# Altium footprint library Michel.PcbLib: 60 footprints (part 4 of 4)
Each footprint in its own frame and in the unit in brackets; x right, y up, seen from the top. Pads: shape width x height; smd on the part's side, far side on the other; paste and mask are expansions set on the pad; w line width, h text height; cw(c..) or ccw(c..) is an arc to the next point about the centre after c.
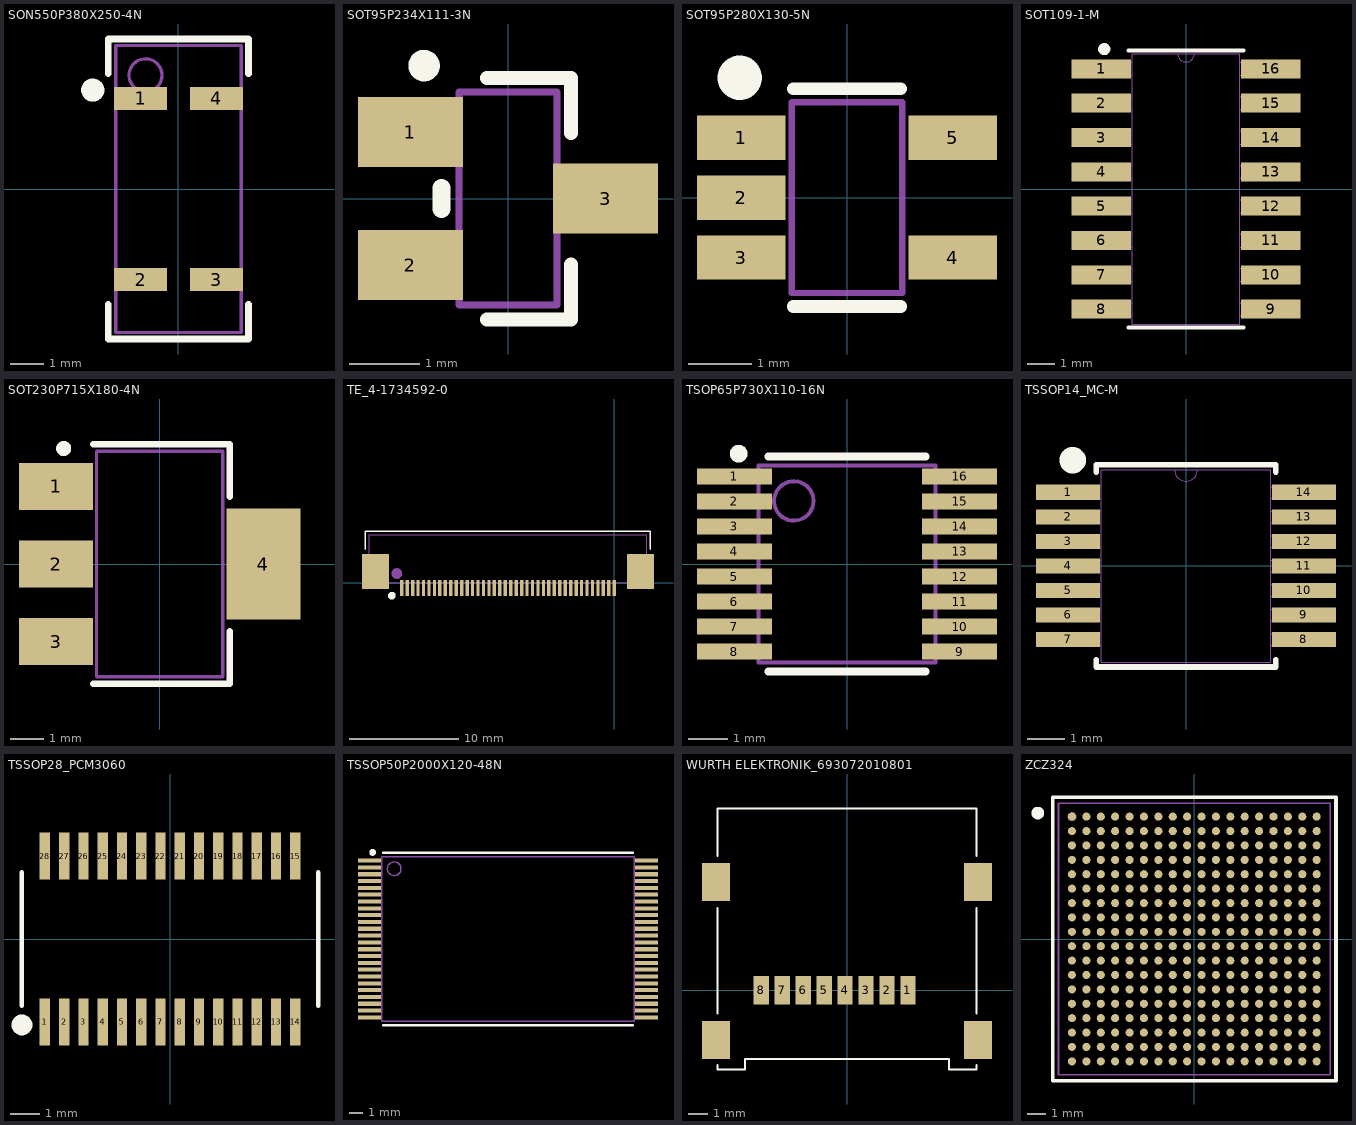
[diagram p3: the footprints below, top view; thin cyan lines are the x and y axes]

## SON550P380X250-4N [mm] "SON, 4-Leads, Body 8.70x3.80mm, Pitch 5.50mm, IPC Medium Density"
height 2.5
pads (4):
  rect 1.6x0.7 smd: 1(-1.15,2.75) 2(-1.15,-2.75) 3(1.15,-2.75) 4(1.15,2.75)
Top Overlay:
  circle w0.5: c-2.6,3 r0.1
  lines w0.2: -2.125,-3.5 -2.125,-4.55 2.125,-4.55 2.125,-3.5 ; -2.125,3.5 -2.125,4.55 2.125,4.55 2.125,3.5
Mechanical 13:
  circle w0.1: c-1,3.45 r0.5
  lines w0.1: -1.9,-4.35 1.9,-4.35 1.9,4.35 -1.9,4.35 -1.9,-4.35
3D body: height 2.5, standoff 0, extent -1.9,-4.35 1.9,4.35

## SOT95P234X111-3N [mm] "SOT23_3 ; SOT23, 3-Leads, Body 2.92x2.34mm, Pitch 0.95mm, IPC Medium Density"
height 1.11
pads (3):
  rect 1.5x1 smd: 1(-1.393,0.95) 2(-1.393,-0.95) 3(1.393,0)
Top Overlay:
  circle w0.25: c-1.2,1.9 r0.1
  lines w0.2: -0.3,-1.725 0.9,-1.725 ; -0.3,1.725 0.9,1.725 ; 0.9,-1.7 0.9,-0.938 ; 0.9,0.938 0.9,1.7
  lines w0.254: -0.95,-0.15 -0.95,0.15
Mechanical 13:
  lines w0.1: -0.7,-1.52 0.7,-1.52 0.7,1.52 -0.7,1.52 -0.7,-1.52
3D body: height 1.11, standoff 0.01, extent -0.7,-1.52 0.7,1.52

## SOT95P280X130-5N [mm] "SOT23_5 ; SOT23, 5-Leads, Body 2.91x2.80mm, Pitch 0.95mm, IPC Medium Density"
height 1.3
pads (5):
  rect 1.4x0.7 smd mask+0.07: 1(-1.677,0.95) 2(-1.677,0) 3(-1.677,-0.95) 4(1.677,-0.95) 5(1.677,0.95)
Top Overlay:
  circle w0.5: c-1.7,1.9 r0.1
  lines w0.2: -0.85,-1.725 0.85,-1.725 ; -0.85,1.725 0.85,1.725
Mechanical 13:
  lines w0.1: -0.875,-1.51 -0.875,1.51 0.875,1.51 0.875,-1.51 -0.875,-1.51
3D body: height 1.3, standoff 0.15, extent -0.875,-1.51 0.875,1.51

## SOT109-1-M [mm] "SOIC_16"
pads (16):
  rect 2.21x0.7 smd: 1(-3.134,4.445) 2(-3.134,3.175) 3(-3.134,1.905) 4(-3.134,0.635) 5(-3.134,-0.635) 6(-3.134,-1.905) 7(-3.134,-3.175) 8(-3.134,-4.445) 9(3.134,-4.445) 10(3.134,-3.175) 11(3.134,-1.905) 12(3.134,-0.635) 13(3.134,0.635) 14(3.134,1.905) 15(3.134,3.175) 16(3.134,4.445)
Top Overlay:
  circle w0.25: c-3.025,5.175 r0.1
  lines w0.152: -2.121,-5.131 2.121,-5.131 ; -2.121,5.131 2.121,5.131
Mechanical 13:
  lines w0: -0.305,5.004 ccw(c0,5.004) 0.305,5.004
  lines w0.025: -3.099,-4.686 -3.099,-4.204 -1.994,-4.204 -1.994,-4.686 -3.099,-4.686 ; -3.099,-3.416 -3.099,-2.934 -1.994,-2.934 -1.994,-3.416 -3.099,-3.416 ; -3.099,-2.146 -3.099,-1.664 -1.994,-1.664 -1.994,-2.146 -3.099,-2.146 ; -3.099,-0.876 -3.099,-0.394 -1.994,-0.394 -1.994,-0.876 -3.099,-0.876 ; -3.099,0.394 -3.099,0.876 -1.994,0.876 -1.994,0.394 -3.099,0.394 ; -3.099,1.664 -3.099,2.146 -1.994,2.146 -1.994,1.664 -3.099,1.664 ; -3.099,2.934 -3.099,3.416 -1.994,3.416 -1.994,2.934 -3.099,2.934 ; -3.099,4.204 -3.099,4.686 -1.994,4.686 -1.994,4.204 -3.099,4.204 ; -1.994,-5.004 1.994,-5.004 1.994,5.004 -1.994,5.004 -1.994,-5.004 ; 1.994,-4.686 1.994,-4.204 3.099,-4.204 3.099,-4.686 1.994,-4.686 ; 1.994,-3.416 1.994,-2.934 3.099,-2.934 3.099,-3.416 1.994,-3.416 ; 1.994,-2.146 1.994,-1.664 3.099,-1.664 3.099,-2.146 1.994,-2.146 ; 1.994,-0.876 1.994,-0.394 3.099,-0.394 3.099,-0.876 1.994,-0.876 ; 1.994,0.394 1.994,0.876 3.099,0.876 3.099,0.394 1.994,0.394 ; 1.994,1.664 1.994,2.146 3.099,2.146 3.099,1.664 1.994,1.664 ; 1.994,2.934 1.994,3.416 3.099,3.416 3.099,2.934 1.994,2.934 ; 1.994,4.204 1.994,4.686 3.099,4.686 3.099,4.204 1.994,4.204
  text "*" at -1.93,3.658 h1.27
3D body: height 0.25, standoff 0, extent 0,0 0.254,0.254
3D body "SOT109-1-M.step": height 1.76, standoff 0, extent -3.099,-5.004 3.099,5.004

## SOT230P715X180-4N [mm] "SOT223_4 ; SOT223, 4-Leads, Body 6.60x7.15mm (avg), Pitch 2.30mm, IPC Medium Density"
height 1.8
pads (4):
  rect 2.2x1.4 smd: 1(-3.075,2.3) 2(-3.075,0) 3(-3.075,-2.3)
  rect 2.2x3.3 smd: 4(3.075,0)
Top Overlay:
  circle w0.25: c-2.85,3.425 r0.1
  lines w0.2: -1.975,-3.55 2.075,-3.55 2.075,-2 ; -1.975,3.55 2.075,3.55 2.075,2
Mechanical 13:
  lines w0.1: -1.875,-3.35 -1.875,3.35 1.875,3.35 1.875,-3.35 -1.875,-3.35
3D body: height 1.8, standoff 0.02, extent -1.875,-3.35 1.875,3.35

## TE_4-1734592-0 [mm] "CMS_42"
pads (42):
  rect 0.3x1.5 smd mask+0.05: 1(-19.5,-0.508) 2(-19,-0.508) 3(-18.5,-0.508) 4(-18,-0.508) 5(-17.5,-0.508) 6(-17,-0.508) 7(-16.5,-0.508) 8(-16,-0.508) 9(-15.5,-0.508) 10(-15,-0.508) 11(-14.5,-0.508) 12(-14,-0.508) 13(-13.5,-0.508) 14(-13,-0.508) 15(-12.5,-0.508) 16(-12,-0.508) 17(-11.5,-0.508) 18(-11,-0.508) 19(-10.5,-0.508) 20(-10,-0.508) 21(-9.5,-0.508) 22(-9,-0.508) 23(-8.5,-0.508) 24(-8,-0.508) 25(-7.5,-0.508) 26(-7,-0.508) 27(-6.5,-0.508) 28(-6,-0.508) 29(-5.5,-0.508) 30(-5,-0.508) 31(-4.5,-0.508) 32(-4,-0.508) 33(-3.5,-0.508) 34(-3,-0.508) 35(-2.5,-0.508) 36(-2,-0.508) 37(-1.5,-0.508) 38(-1,-0.508) 39(-0.5,-0.508) 40(0,-0.508)
  rect 2.5x3.2 smd: ""(-21.913,1.016) ""(2.413,1.016)
Top Overlay:
  circle w0.5: c-20.4,-1.2 r0.1
  lines w0.152: -22.86,3.048 -22.86,4.699 3.302,4.699 3.302,3.048
Mechanical 13:
  circle w0.508: c-19.95,0.825 r0.232
  lines w0.025: -22.463,0 2.963,0 2.963,4.394 -22.463,4.394 -22.463,0
3D body: height 0.25, standoff 0, extent 0,0 0.254,0.254

## TSOP65P730X110-16N [mm] "QSOP_16 ; TSOP, 16-Leads, Body 5.00x4.45mm, Pitch 0.65mm, IPC Medium Density"
height 1.1
pads (16):
  rect 1.9x0.4 smd mask+0.06: 1(-2.857,2.222) 2(-2.857,1.587) 3(-2.857,0.953) 4(-2.857,0.318) 5(-2.857,-0.318) 6(-2.857,-0.953) 7(-2.857,-1.587) 8(-2.857,-2.222) 9(2.857,-2.222) 10(2.857,-1.587) 11(2.857,-0.953) 12(2.857,-0.318) 13(2.857,0.318) 14(2.857,0.953) 15(2.857,1.587) 16(2.857,2.222)
Top Overlay:
  circle w0.25: c-2.75,2.8 r0.1
  lines w0.2: -2,-2.725 2,-2.725 ; -2,2.725 2,2.725
Mechanical 13:
  circle w0.1: c-1.35,1.6 r0.5
  lines w0.1: -2.25,-2.5 -2.25,2.5 2.25,2.5 2.25,-2.5 -2.25,-2.5
3D body: height 1.1, standoff 0.1, extent -2.25,-2.5 2.25,2.5

## TSSOP14_MC-M [mm] "TSSOP_14"
pads (14):
  rect 1.7x0.4 smd mask+0.06: 1(-3.124,1.95) 2(-3.124,1.3) 3(-3.124,0.65) 4(-3.124,0) 5(-3.124,-0.65) 6(-3.124,-1.3) 7(-3.124,-1.95) 8(3.124,-1.95) 9(3.124,-1.3) 10(3.124,-0.65) 11(3.124,0) 12(3.124,0.65) 13(3.124,1.3) 14(3.124,1.95)
Top Overlay:
  circle w0.5: c-3,2.8 r0.1
  lines w0.152: -2.375,-2.486 -2.375,-2.68 2.375,-2.68 2.375,-2.486 ; -2.375,2.486 -2.375,2.68 2.375,2.68 2.375,2.486
Mechanical 13:
  lines w0: -0.305,2.553 ccw(c0,2.553) 0.305,2.553
  lines w0.025: -3.2,-2.102 -2.248,-2.102 -2.248,-1.798 -3.2,-1.798 -3.2,-2.102 ; -3.2,-1.452 -2.248,-1.452 -2.248,-1.148 -3.2,-1.148 -3.2,-1.452 ; -3.2,-0.802 -2.248,-0.802 -2.248,-0.498 -3.2,-0.498 -3.2,-0.802 ; -3.2,-0.152 -2.248,-0.152 -2.248,0.152 -3.2,0.152 -3.2,-0.152 ; -3.2,0.498 -2.248,0.498 -2.248,0.802 -3.2,0.802 -3.2,0.498 ; -3.2,1.148 -2.248,1.148 -2.248,1.452 -3.2,1.452 -3.2,1.148 ; -3.2,1.798 -2.248,1.798 -2.248,2.102 -3.2,2.102 -3.2,1.798 ; -2.248,-2.553 -2.248,2.553 2.248,2.553 2.248,-2.553 -2.248,-2.553 ; 2.248,-2.102 3.2,-2.102 3.2,-1.798 2.248,-1.798 2.248,-2.102 ; 2.248,-1.452 3.2,-1.452 3.2,-1.148 2.248,-1.148 2.248,-1.452 ; 2.248,-0.802 3.2,-0.802 3.2,-0.498 2.248,-0.498 2.248,-0.802 ; 2.248,-0.152 3.2,-0.152 3.2,0.152 2.248,0.152 2.248,-0.152 ; 2.248,0.498 3.2,0.498 3.2,0.802 2.248,0.802 2.248,0.498 ; 2.248,1.148 3.2,1.148 3.2,1.452 2.248,1.452 2.248,1.148 ; 2.248,1.798 3.2,1.798 3.2,2.102 2.248,2.102 2.248,1.798
  text "*" at -2.184,1.206 h1.27
3D body "TSSOP14_MC-M.step": height 1.2, standoff 0, extent -3.2,-2.553 3.2,2.553
3D body: height 0.25, standoff 0, extent 0,0 0.254,0.254

## TSSOP28_PCM3060 [mm] "TSSOP_28"
pads (28):
  rect 0.35x1.6 smd: 1(-4.225,-2.8) 2(-3.575,-2.8) 3(-2.925,-2.8) 4(-2.275,-2.8) 5(-1.625,-2.8) 6(-0.975,-2.8) 7(-0.325,-2.8) 8(0.325,-2.8) 9(0.975,-2.8) 10(1.625,-2.8) 11(2.275,-2.8) 12(2.925,-2.8) 13(3.575,-2.8) 14(4.225,-2.8) 15(4.225,2.8) 16(3.575,2.8) 17(2.925,2.8) 18(2.275,2.8) 19(1.625,2.8) 20(0.975,2.8) 21(0.325,2.8) 22(-0.325,2.8) 23(-0.975,2.8) 24(-1.625,2.8) 25(-2.275,2.8) 26(-2.925,2.8) 27(-3.575,2.8) 28(-4.225,2.8)
Top Overlay:
  circle w0.5: c-5,-2.9 r0.1
  lines w0.15: -5,-2.25 -5,2.25 ; 5,-2.25 5,2.25

## TSSOP50P2000X120-48N [mm] "TSSOP, 48-Leads, Body 12.01x18.40mm, Pitch 0.50mm, IPC Medium Density"
height 1.2
pads (48):
  rect 1.7x0.3 smd: 1(-49.55,28.75) 2(-49.55,28.25) 3(-49.55,27.75) 4(-49.55,27.25) 5(-49.55,26.75) 6(-49.55,26.25) 7(-49.55,25.75) 8(-49.55,25.25) 9(-49.55,24.75) 10(-49.55,24.25) 11(-49.55,23.75) 12(-49.55,23.25) 13(-49.55,22.75) 14(-49.55,22.25) 15(-49.55,21.75) 16(-49.55,21.25) 17(-49.55,20.75) 18(-49.55,20.25) 19(-49.55,19.75) 20(-49.55,19.25) 21(-49.55,18.75) 22(-49.55,18.25) 23(-49.55,17.75) 24(-49.55,17.25) 25(-29.25,17.25) 26(-29.25,17.75) 27(-29.25,18.25) 28(-29.25,18.75) 29(-29.25,19.25) 30(-29.25,19.75) 31(-29.25,20.25) 32(-29.25,20.75) 33(-29.25,21.25) 34(-29.25,21.75) 35(-29.25,22.25) 36(-29.25,22.75) 37(-29.25,23.25) 38(-29.25,23.75) 39(-29.25,24.25) 40(-29.25,24.75) 41(-29.25,25.25) 42(-29.25,25.75) 43(-29.25,26.25) 44(-29.25,26.75) 45(-29.25,27.25) 46(-29.25,27.75) 47(-29.25,28.25) 48(-29.25,28.75)
Top Overlay:
  circle w0.25: c-49.325,29.35 r0.125
  lines w0.2: -48.55,16.67 -30.25,16.67 ; -48.55,29.33 -30.25,29.33
Mechanical 13:
  circle w0.1: c-47.75,28.15 r0.5
  lines w0.1: -48.65,16.95 -48.65,29.05 -30.15,29.05 -30.15,16.95 -48.65,16.95
3D body: height 1.2, standoff 0.05, extent -48.65,16.95 -30.15,29.05

## WURTH ELEKTRONIK_693072010801 [mm]
pads (12):
  rect 0.8x1.5 smd: 1(3.2,0) 2(2.1,0) 3(1,0) 4(-0.1,0) 5(-1.2,0) 6(-2.3,0) 7(-3.4,0) 8(-4.5,0)
  rect 1.45x2 smd: ""(-6.875,-2.6) ""(-6.875,5.7) ""(6.875,-2.6) ""(6.875,5.7)
Top Overlay:
  lines w0.1: -6.8,-3.925 -6.8,-4.15 -5.35,-4.15 -5.35,-3.6 5.35,-3.6 5.35,-4.15 6.8,-4.15 6.8,-3.925 ; -6.8,-1.225 -6.8,4.325 ; -6.8,7.05 -6.8,9.55 6.8,9.55 6.8,7.05 ; 6.8,-1.225 6.8,4.325

## ZCZ324 [mm] "BGA_324"
pads (324):
  round 0.45 smd mask+0.051: A1(-6.8,6.8) A2(-6,6.8) A3(-5.2,6.8) A4(-4.4,6.8) A5(-3.6,6.8) A6(-2.8,6.8) A7(-2,6.8) A8(-1.2,6.8) A9(-0.4,6.8) A10(0.4,6.8) A11(1.2,6.8) A12(2,6.8) A13(2.8,6.8) A14(3.6,6.8) A15(4.4,6.8) A16(5.2,6.8) A17(6,6.8) A18(6.8,6.8) B1(-6.8,6) B2(-6,6) B3(-5.2,6) B4(-4.4,6) B5(-3.6,6) B6(-2.8,6) B7(-2,6) B8(-1.2,6) B9(-0.4,6) B10(0.4,6) B11(1.2,6) B12(2,6) B13(2.8,6) B14(3.6,6) B15(4.4,6) B16(5.2,6) B17(6,6) B18(6.8,6) C1(-6.8,5.2) C2(-6,5.2) C3(-5.2,5.2) C4(-4.4,5.2) C5(-3.6,5.2) C6(-2.8,5.2) C7(-2,5.2) C8(-1.2,5.2) C9(-0.4,5.2) C10(0.4,5.2) C11(1.2,5.2) C12(2,5.2) C13(2.8,5.2) C14(3.6,5.2) C15(4.4,5.2) C16(5.2,5.2) C17(6,5.2) C18(6.8,5.2) D1(-6.8,4.4) D2(-6,4.4) D3(-5.2,4.4) D4(-4.4,4.4) D5(-3.6,4.4) D6(-2.8,4.4) D7(-2,4.4) D8(-1.2,4.4) D9(-0.4,4.4) D10(0.4,4.4) D11(1.2,4.4) D12(2,4.4) D13(2.8,4.4) D14(3.6,4.4) D15(4.4,4.4) D16(5.2,4.4) D17(6,4.4) D18(6.8,4.4) E1(-6.8,3.6) E2(-6,3.6) E3(-5.2,3.6) E4(-4.4,3.6) E5(-3.6,3.6) E6(-2.8,3.6) E7(-2,3.6) E8(-1.2,3.6) E9(-0.4,3.6) E10(0.4,3.6) E11(1.2,3.6) E12(2,3.6) E13(2.8,3.6) E14(3.6,3.6) E15(4.4,3.6) E16(5.2,3.6) E17(6,3.6) E18(6.8,3.6) F1(-6.8,2.8) F2(-6,2.8) F3(-5.2,2.8) F4(-4.4,2.8) F5(-3.6,2.8) F6(-2.8,2.8) F7(-2,2.8) F8(-1.2,2.8) F9(-0.4,2.8) F10(0.4,2.8) F11(1.2,2.8) F12(2,2.8) F13(2.8,2.8) F14(3.6,2.8) F15(4.4,2.8) F16(5.2,2.8) F17(6,2.8) F18(6.8,2.8) G1(-6.8,2) G2(-6,2) G3(-5.2,2) G4(-4.4,2) G5(-3.6,2) G6(-2.8,2) G7(-2,2) G8(-1.2,2) G9(-0.4,2) G10(0.4,2) G11(1.2,2) G12(2,2) G13(2.8,2) G14(3.6,2) G15(4.4,2) G16(5.2,2) G17(6,2) G18(6.8,2) H1(-6.8,1.2) H2(-6,1.2) H3(-5.2,1.2) H4(-4.4,1.2) H5(-3.6,1.2) H6(-2.8,1.2) H7(-2,1.2) H8(-1.2,1.2) H9(-0.4,1.2) H10(0.4,1.2) H11(1.2,1.2) H12(2,1.2) H13(2.8,1.2) H14(3.6,1.2) H15(4.4,1.2) H16(5.2,1.2) H17(6,1.2) H18(6.8,1.2) J1(-6.8,0.4) J2(-6,0.4) J3(-5.2,0.4) J4(-4.4,0.4) J5(-3.6,0.4) J6(-2.8,0.4) J7(-2,0.4) J8(-1.2,0.4) J9(-0.4,0.4) J10(0.4,0.4) J11(1.2,0.4) J12(2,0.4) J13(2.8,0.4) J14(3.6,0.4) J15(4.4,0.4) J16(5.2,0.4) J17(6,0.4) J18(6.8,0.4) K1(-6.8,-0.4) K2(-6,-0.4) K3(-5.2,-0.4) K4(-4.4,-0.4) K5(-3.6,-0.4) K6(-2.8,-0.4) K7(-2,-0.4) K8(-1.2,-0.4) K9(-0.4,-0.4) K10(0.4,-0.4) K11(1.2,-0.4) K12(2,-0.4) K13(2.8,-0.4) K14(3.6,-0.4) K15(4.4,-0.4) K16(5.2,-0.4) K17(6,-0.4) K18(6.8,-0.4) L1(-6.8,-1.2) L2(-6,-1.2) L3(-5.2,-1.2) L4(-4.4,-1.2) L5(-3.6,-1.2) L6(-2.8,-1.2) L7(-2,-1.2) L8(-1.2,-1.2) L9(-0.4,-1.2) L10(0.4,-1.2) L11(1.2,-1.2) L12(2,-1.2) L13(2.8,-1.2) L14(3.6,-1.2) L15(4.4,-1.2) L16(5.2,-1.2) L17(6,-1.2) L18(6.8,-1.2) M1(-6.8,-2) M2(-6,-2) M3(-5.2,-2) M4(-4.4,-2) M5(-3.6,-2) M6(-2.8,-2) M7(-2,-2) M8(-1.2,-2) M9(-0.4,-2) M10(0.4,-2) M11(1.2,-2) M12(2,-2) M13(2.8,-2) M14(3.6,-2) M15(4.4,-2) M16(5.2,-2) M17(6,-2) M18(6.8,-2) N1(-6.8,-2.8) N2(-6,-2.8) N3(-5.2,-2.8) N4(-4.4,-2.8) N5(-3.6,-2.8) N6(-2.8,-2.8) N7(-2,-2.8) N8(-1.2,-2.8) N9(-0.4,-2.8) N10(0.4,-2.8) N11(1.2,-2.8) N12(2,-2.8) N13(2.8,-2.8) N14(3.6,-2.8) N15(4.4,-2.8) N16(5.2,-2.8) N17(6,-2.8) N18(6.8,-2.8) P1(-6.8,-3.6) P2(-6,-3.6) P3(-5.2,-3.6) P4(-4.4,-3.6) P5(-3.6,-3.6) P6(-2.8,-3.6) P7(-2,-3.6) P8(-1.2,-3.6) P9(-0.4,-3.6) P10(0.4,-3.6) P11(1.2,-3.6) P12(2,-3.6) P13(2.8,-3.6) P14(3.6,-3.6) P15(4.4,-3.6) P16(5.2,-3.6) P17(6,-3.6) P18(6.8,-3.6) R1(-6.8,-4.4) R2(-6,-4.4) R3(-5.2,-4.4) R4(-4.4,-4.4) R5(-3.6,-4.4) R6(-2.8,-4.4) R7(-2,-4.4) R8(-1.2,-4.4) R9(-0.4,-4.4) R10(0.4,-4.4) R11(1.2,-4.4) R12(2,-4.4) R13(2.8,-4.4) R14(3.6,-4.4) R15(4.4,-4.4) R16(5.2,-4.4) R17(6,-4.4) R18(6.8,-4.4) T1(-6.8,-5.2) T2(-6,-5.2) T3(-5.2,-5.2) T4(-4.4,-5.2) T5(-3.6,-5.2) T6(-2.8,-5.2) T7(-2,-5.2) T8(-1.2,-5.2) T9(-0.4,-5.2) T10(0.4,-5.2) T11(1.2,-5.2) T12(2,-5.2) T13(2.8,-5.2) T14(3.6,-5.2) T15(4.4,-5.2) T16(5.2,-5.2) T17(6,-5.2) T18(6.8,-5.2) U1(-6.8,-6) U2(-6,-6) U3(-5.2,-6) U4(-4.4,-6) U5(-3.6,-6) U6(-2.8,-6) U7(-2,-6) U8(-1.2,-6) U9(-0.4,-6) U10(0.4,-6) U11(1.2,-6) U12(2,-6) U13(2.8,-6) U14(3.6,-6) U15(4.4,-6) U16(5.2,-6) U17(6,-6) U18(6.8,-6) V1(-6.8,-6.8) V2(-6,-6.8) V3(-5.2,-6.8) V4(-4.4,-6.8) V5(-3.6,-6.8) V6(-2.8,-6.8) V7(-2,-6.8) V8(-1.2,-6.8) V9(-0.4,-6.8) V10(0.4,-6.8) V11(1.2,-6.8) V12(2,-6.8) V13(2.8,-6.8) V14(3.6,-6.8) V15(4.4,-6.8) V16(5.2,-6.8) V17(6,-6.8) V18(6.8,-6.8)
Top Overlay:
  circle w0.5: c-8.7,7 r0.1
  lines w0.2: -7.874,-7.874 7.874,-7.874 7.874,7.874 -7.874,7.874 -7.874,-7.874
Mechanical 13:
  circle w0.1: c-6.8,6.8 r0.2
  lines w0.1: -7.55,-7.55 7.55,-7.55 7.55,7.55 -7.55,7.55 -7.55,-7.55
3D body "ZCZ324.step": height 1.4, standoff 0, extent -7.544,-7.544 7.544,7.544